# Altium footprint library iMX53_BB_PCB_V1I1.PcbLib: 72 footprints (part 5 of 5)
Each footprint in its own frame and in the unit in brackets; x right, y up, seen from the top. Pads: shape width x height; smd on the part's side, far side on the other; paste and mask are expansions set on the pad; w line width, h text height; cw(c..) or ccw(c..) is an arc to the next point about the centre after c.
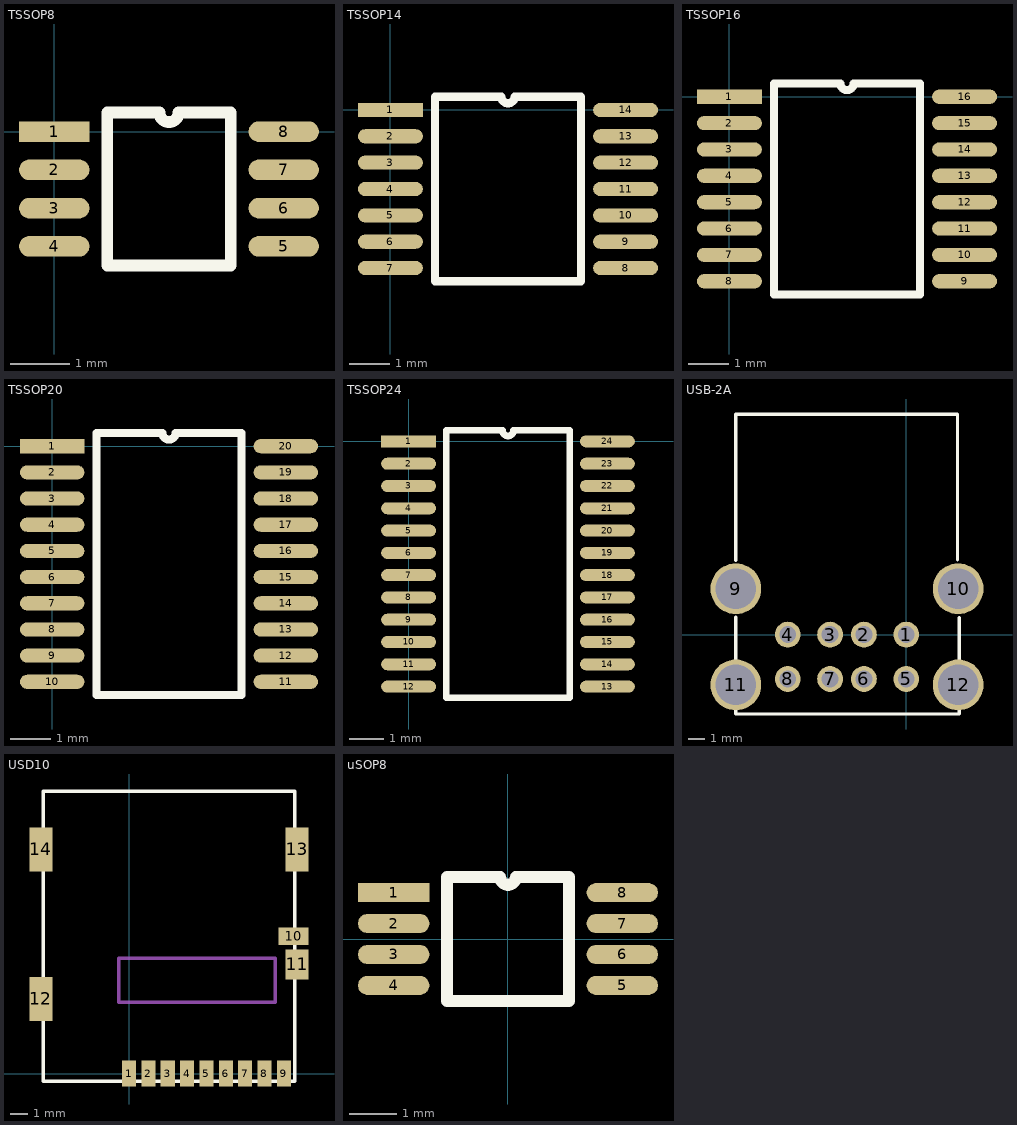
[diagram p4: the footprints below, top view; thin cyan lines are the x and y axes]

## TSSOP8 [mm]
pads (8):
  rect 1.2x0.35 smd: 1(0,0)
  oval 1.2x0.35 smd: 2(0,-0.65) 3(0,-1.3) 4(0,-1.95) 5(3.9,-1.95) 6(3.9,-1.3) 7(3.9,-0.65) 8(3.9,0)
Top Overlay:
  lines w0.2: 0.9,-2.275 0.9,0.325 1.788,0.325 ccw(c1.95,0.325) 2.112,0.325 3,0.325 3,-2.275 0.9,-2.275

## TSSOP14 [mm]
pads (14):
  rect 1.6x0.35 smd: 1(0,0)
  oval 1.6x0.35 smd: 2(0,-0.65) 3(0,-1.3) 4(0,-1.95) 5(0,-2.6) 6(0,-3.25) 7(0,-3.9) 8(5.8,-3.9) 9(5.8,-3.25) 10(5.8,-2.6) 11(5.8,-1.95) 12(5.8,-1.3) 13(5.8,-0.65) 14(5.8,0)
Top Overlay:
  lines w0.2: 1.1,-4.225 4.7,-4.225 ; 1.1,-4.2 1.1,0.325 2.738,0.325 ccw(c2.9,0.325) 3.062,0.325 4.7,0.325 4.7,-4.2

## TSSOP16 [mm]
pads (16):
  rect 1.6x0.35 smd: 1(0,0)
  oval 1.6x0.35 smd: 2(0,-0.65) 3(0,-1.3) 4(0,-1.95) 5(0,-2.6) 6(0,-3.25) 7(0,-3.9) 8(0,-4.55) 9(5.8,-4.55) 10(5.8,-3.9) 11(5.8,-3.25) 12(5.8,-2.6) 13(5.8,-1.95) 14(5.8,-1.3) 15(5.8,-0.65) 16(5.8,0)
Top Overlay:
  lines w0.2: 1.1,-4.875 4.7,-4.875 ; 1.1,-4.85 1.1,0.325 2.738,0.325 ccw(c2.9,0.325) 3.062,0.325 4.7,0.325 4.7,-4.85

## TSSOP20 [mm]
pads (20):
  rect 1.6x0.35 smd: 1(0,0)
  oval 1.6x0.35 smd: 2(0,-0.65) 3(0,-1.3) 4(0,-1.95) 5(0,-2.6) 6(0,-3.25) 7(0,-3.9) 8(0,-4.55) 9(0,-5.2) 10(0,-5.85) 11(5.8,-5.85) 12(5.8,-5.2) 13(5.8,-4.55) 14(5.8,-3.9) 15(5.8,-3.25) 16(5.8,-2.6) 17(5.8,-1.95) 18(5.8,-1.3) 19(5.8,-0.65) 20(5.8,0)
Top Overlay:
  lines w0.2: 1.1,-6.175 1.1,0.325 2.737,0.325 ccw(c2.9,0.325) 3.062,0.325 4.7,0.325 4.7,-6.175 1.1,-6.175

## TSSOP24 [mm]
pads (24):
  rect 1.6x0.35 smd: 1(0,0)
  oval 1.6x0.35 smd: 2(0,-0.65) 3(0,-1.3) 4(0,-1.95) 5(0,-2.6) 6(0,-3.25) 7(0,-3.9) 8(0,-4.55) 9(0,-5.2) 10(0,-5.85) 11(0,-6.5) 12(0,-7.15) 13(5.8,-7.15) 14(5.8,-6.5) 15(5.8,-5.85) 16(5.8,-5.2) 17(5.8,-4.55) 18(5.8,-3.9) 19(5.8,-3.25) 20(5.8,-2.6) 21(5.8,-1.95) 22(5.8,-1.3) 23(5.8,-0.65) 24(5.8,0)
Top Overlay:
  lines w0.2: 2.737,0.325 1.1,0.325 1.1,-7.475 4.7,-7.475 4.7,0.325 3.062,0.325 cw(c2.9,0.325) 2.738,0.325

## USB-2A [mm]
pads (12):
  round 1.524 hole 1: 1(0,0) 2(-2.5,0) 3(-4.5,0) 4(-7,0) 5(0,-2.62) 6(-2.5,-2.62) 7(-4.5,-2.62) 8(-7,-2.62)
  round 3 hole 2.4: 9(-10.07,2.71) 10(3.07,2.71) 11(-10.07,-2.97) 12(3.07,-2.97)
Top Overlay:
  lines w0.2: -10.07,1.035 -10.07,-4.69 3.13,-4.69 3.13,1.01 ; -10.07,4.385 -10.07,13.01 3.03,13.01 ; 3.03,4.41 3.03,13.035

## USD10 [mm]
pads (14):
  rect 0.8x1.5 smd: 1(0,0) 2(1.1,0) 3(2.2,0) 4(3.3,0) 5(4.4,0) 6(5.5,0) 7(6.6,0) 8(7.7,0) 9(8.8,0)
  rect 1.7x1 smd: 10(9.35,7.8)
  rect 1.3x1.7 smd: 11(9.55,6.2)
  rect 1.3x2.5 smd: 12(-5.01,4.25) 13(9.55,12.75) 14(-5.01,12.75)
Top Overlay:
  lines w0.2: -4.88,-0.45 -4.88,16.05 9.42,16.05 9.42,-0.45 -4.88,-0.45
Mechanical 1:
  lines w0.2: -0.58,4.05 -0.58,6.55 8.32,6.55 8.32,4.05 -0.58,4.05

## uSOP8 [mil]
pads (8):
  rect 60x16 smd: 1(-96,39)
  oval 60x16 smd: 2(-96,13) 3(-96,-13) 4(-96,-39) 5(96,-39) 6(96,-13) 7(96,13) 8(96,39)
Top Overlay:
  lines w10: -51.18,-52 -51.18,52 -6.5,52 ccw(c0,52) 6.5,52 51.18,52 51.18,-52 -51.18,-52